# EAGLE library part RNX6 (library EW_Resistors)
RESISTOR NETWORK
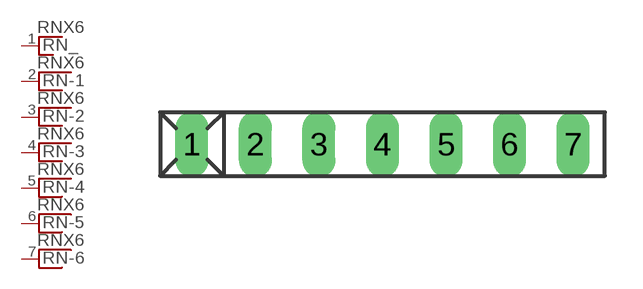
[diagram p42: symbol with the pads of RN-7; footprint RN-7]

Designator prefix RN; gates _=RN_1-4 -1=RNX-4 -2=RNX-4 -3=RNX-4 -4=RNX-4 -5=RNX-4 -6=RNX-4

## RNX6 (OC_FARNELL: unknown; OC_NEWARK: unknown)  [RN-7]
1  _:1  pas
2  -1:1  pas
3  -2:1  pas
4  -3:1  pas
5  -4:1  pas
6  -5:1  pas
7  -6:1  pas

## Footprint RN-7 (pad centres in mm)
RESISTOR NETWORK
drill 0.813 long: 1 -7.62,0; 2 -5.08,0; 3 -2.54,0; 4 0,0; 5 2.54,0; 6 5.08,0; 7 7.62,0